# Altium schematic symbol library SFV30R-1STE1HLF.SchLib: 1 symbol
Pins are listed as number, name and electrical type; pins without a type are passive.

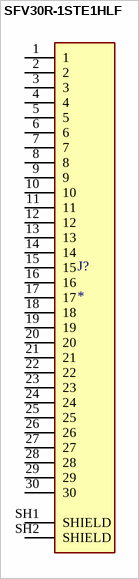
[diagram p0: symbol SFV30R-1STE1HLF]

## SFV30R-1STE1HLF
designator J?
0.50mm Flex Connector, SFV-R Series, 30 Position, Bottom Side Contact, Side Entry Surface Mount ZIF Connector, Halogen Free, Lead Free, Matte Tin Plate.; MF: Amphenol; MP: SFV30R-1STE1HLF; SnapEDA_Link: https://www.snapeda.com/parts/SFV30R-1STE1HLF/Amphenol/view-part/?ref=snap; Package: None; Value: *; Check_prices: https://www.snapeda.com/parts/SFV30R-1STE1HLF/Amphenol/view-part/?ref=eda
footprint AMPHENOL_SFV30R-1STE1HLF
pins: 1, 2, 3, 4, 5, 6, 7, 8, 9, 10, 11, 12, 13, 14, 15, 16, 17, 18, 19, 20, 21, 22, 23, 24, 25, 26, 27, 28, 29, 30, SH1 SHIELD, SH2 SHIELD